# Altium footprint library PCB - LED - APBA3010SEKCGKC-GX.PcbLib: 1 footprints
Each footprint in its own frame and in the unit in brackets; x right, y up, seen from the top. Pads: shape width x height; smd on the part's side, far side on the other; paste and mask are expansions set on the pad; w line width, h text height; cw(c..) or ccw(c..) is an arc to the next point about the centre after c.
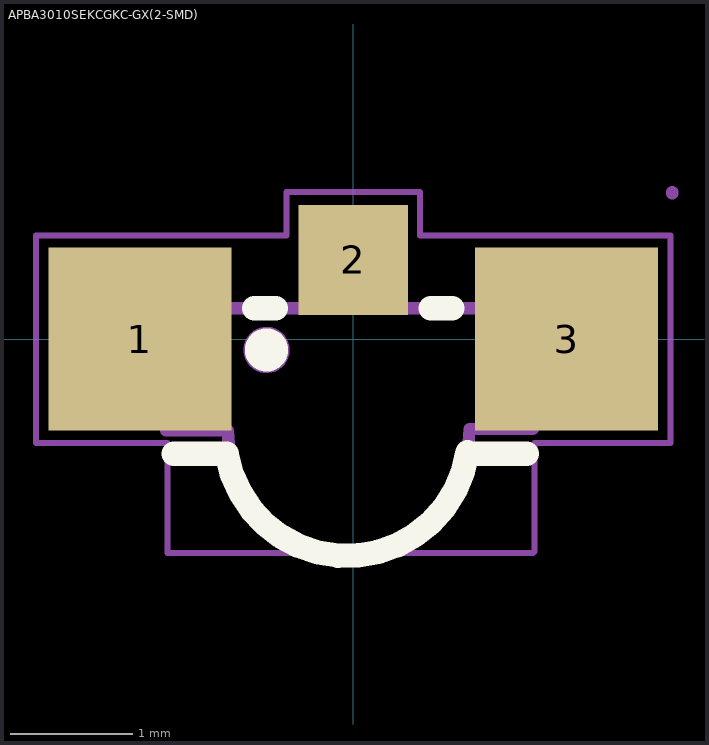
[diagram p0: the footprint, top view; thin cyan lines are the x and y axes]

## APBA3010SEKCGKC-GX(2-SMD) [mm]
pads (3):
  rect 1.5x1.5 smd mask+0.051: 1(-1.75,0) 3(1.75,0)
  rect 0.9x0.9 smd mask+0.051: 2(0,0.65)
Top Overlay:
  circle w0.2: c-0.711,-0.089 r0.077
  lines w0.2: -1.473,-0.94 -1.036,-0.94 ; -1.036,-0.946 ccw(c-0.051,-0.779) 0.938,-0.928 ; -0.813,0.254 -0.635,0.254 ; 0.635,0.254 0.813,0.254 ; 0.953,-0.94 1.422,-0.94
Mechanical 1:
  text ".Designator" at -1.448,-1.569 h1.2
Top Courtyard:
  lines w0.1: 2.616,1.194 2.616,1.206
Mechanical 13:
  circle w0.1: c-0.711,-0.089 r0.14
  lines w0.1: -1.041,-0.749 -1.537,-0.749 -1.537,0.254 1.46,0.254 1.473,0.241 1.473,-0.737 0.953,-0.737 cw(c-0.038,-0.762) -1.029,-0.749
Mechanical 15:
  lines w0.05: -2.603,-0.851 -2.603,0.851 -0.546,0.851 -0.546,1.206 0.546,1.206 0.546,0.851 2.603,0.851 2.603,-0.851 1.486,-0.851 1.486,-1.74 1.473,-1.753 -1.524,-1.753 -1.524,-0.851 -2.603,-0.851
3D body "APBA3010.STEP": height 1.01, standoff 0.01, extent -1.527,-1.753 1.473,0.257
3D body: height 0.8, standoff -0.8, extent -1.651,-0.889 -1.651,-0.889
3D body: height 0.8, standoff -0.8, extent -2.159,1.651 -2.159,1.651
3D body: height 0.8, standoff -0.8, extent -3.175,-1.651 -3.175,-1.651
3D body: height 0.8, standoff -0.8, extent 1.118,-1.524 1.118,-1.524